# EAGLE library part WE-LAN_749014010 (library Wurth_Signal & Communications_WE-LAN)
WE-LAN LAN Transformer 10/100 Base-T Characteristics Power over Ethernet up to 150 Watts and speeds up to 1 Gbit/s Available in SMD Compliant with standards: IEEE 802.3u, IEEE 802.3ab, IEEE 802.3af, IEEE 802.3at and upcoming IEEE 802.3bt Applications Suitable for industrial temperatures from –40 °C up to +125 °C Compatible to Industrial Ethernet systems like EtherCAT or Profinet Compliant with most IC’s for Ethernet applications such as Microchip, Texas Instruments, Broadcom, Linear Technology Hubs, Routers, Switches, IP cameras, IoT applications <https://katalog.we-online.com/media/images/v2/o14800v209%20WE-LAN%20-%20Kopie.jpg> Details see: https://katalog.we-online.com/en/pbs/WE-LAN Updated by Ella Wu 2019-07-17 2019 (C) Würth Elektronik
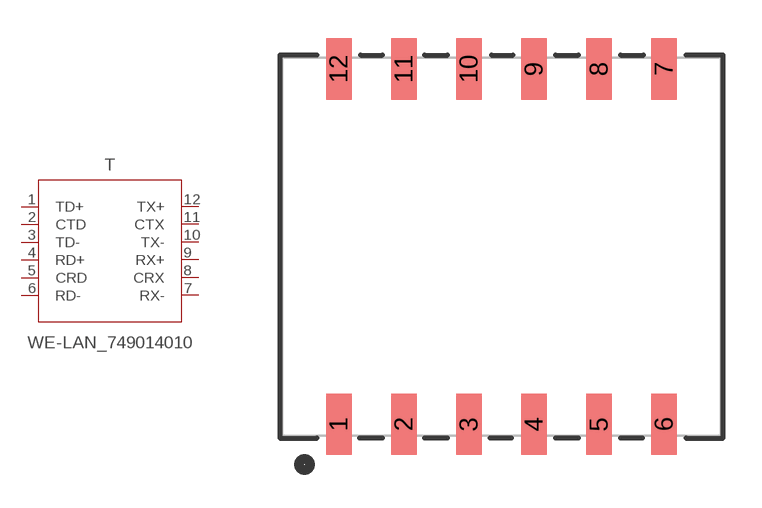
[diagram p19: symbol with the pads of WE-LAN_749014010; footprint WE-LAN_749014010]

Designator prefix T

## WE-LAN_749014010 (DATA-RATE: 10/100 Base-T; DATASHEET-URL: https://www.we-online.com/catalog/datasheet/749014010.pdf; HPLE: No; L: 350uH; MOUNT: SMT; PART-NUMBER: 749014010; POE: non-PoE; PORTS: 1; VALUE: 749014010; VT: 4500 V (RMS))  [WE-LAN_749014010]
1  TD+  pas
2  CTD  pas
3  TD-  pas
4  RD+  pas
5  CRD  pas
6  RD-  pas
7  RX-  pas
8  CRX  pas
9  RX+  pas
10  TX-  pas
11  CTX  pas
12  TX+  pas

## Footprint WE-LAN_749014010 (pad centres in mm)
WE-LAN LAN Transformer 10/100 Base-T
smd 1 x 2.39: 1 -6.35,-6.935; 2 -3.81,-6.935; 3 -1.27,-6.935; 4 1.27,-6.935; 5 3.81,-6.935; 6 6.35,-6.935; 7 6.35,6.935; 8 3.81,6.935; 9 1.27,6.935; 10 -1.27,6.935; 11 -3.81,6.935; 12 -6.35,6.935